# EAGLE library part MMA7660FC (library mbed-HDK-IC)
ACCELEROMETER 1.5G I2C 10DFN
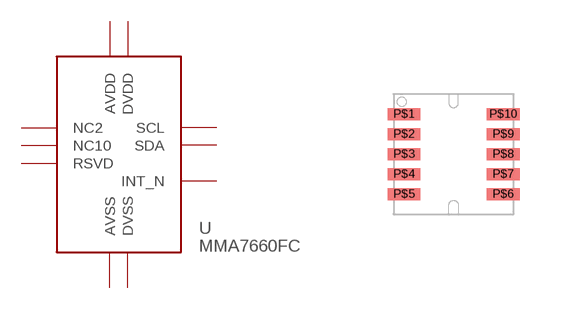
[diagram p16: symbol with the pads of DFN10-3X3MM; footprint DFN10-3X3MM]

Designator prefix U

## MMA7660FC (MF: NXP; MFN: MMA7660FCT; OC-DIGIKEY: MMA7660FCT-ND; OC-MOUSER: 841-MMA7660FCT; OC-NEWARK: 2238133)  [DFN10-3X3MM]
P$1  RSVD
P$2  NC2
P$3  AVDD
P$4  AVSS
P$5  INT_N
P$6  SCL
P$7  SDA
P$8  DVSS
P$9  DVDD
P$10  NC10

## Footprint DFN10-3X3MM (pad centres in mm)
FREESCALE MMA7660FC
smd 0.825 x 0.3: P$1 -1.24,1; P$2 -1.24,0.5; P$3 -1.24,0; P$4 -1.24,-0.5; P$5 -1.24,-1; P$6 1.24,-1; P$7 1.24,-0.5; P$8 1.24,0; P$9 1.24,0.5; P$10 1.24,1